# Altium footprint library B32-2010.PcbLib: 1 footprints
Each footprint in its own frame and in the unit in brackets; x right, y up, seen from the top. Pads: shape width x height; smd on the part's side, far side on the other; paste and mask are expansions set on the pad; w line width, h text height; cw(c..) or ccw(c..) is an arc to the next point about the centre after c.
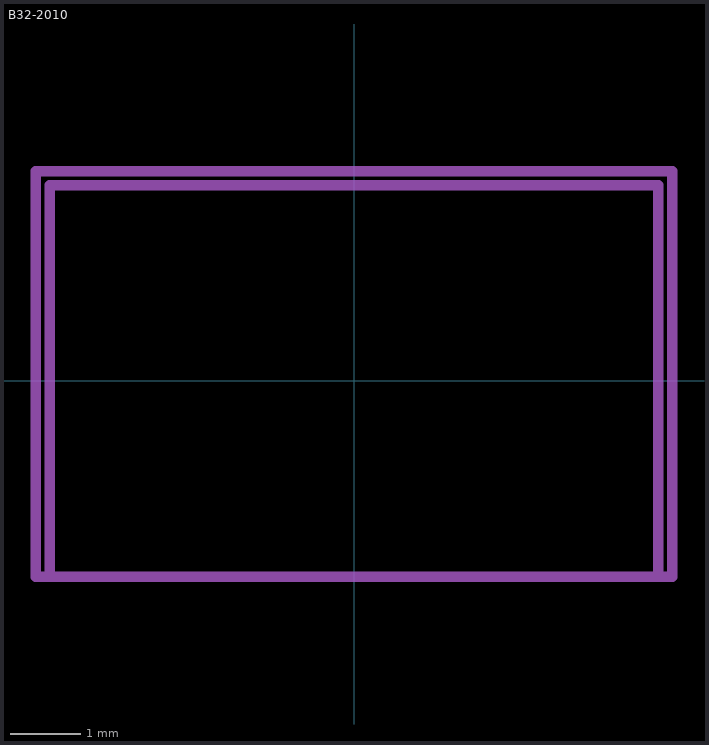
[diagram p0: the footprint, top view; thin cyan lines are the x and y axes]

## B32-2010 [mm]
Top Assembly:
  lines w0.15: -4.35,-2.8 4.35,-2.8 4.35,2.8 -4.35,2.8 -4.35,-2.8
  text "'.Designator'" at -2.875,1.4 h0.5
Top Courtyard:
  lines w0.15: -4.55,-2.8 -4.55,3 4.55,3 4.55,-2.8 -4.55,-2.8
3D body "B32_20[]0.step": height 7, standoff 1, extent -3.05,-2.7 2.95,2.8